# Altium footprint library Inductors.PcbLib: 26 footprints (part 1 of 2)
Each footprint in its own frame and in the unit in brackets; x right, y up, seen from the top. Pads: shape width x height; smd on the part's side, far side on the other; paste and mask are expansions set on the pad; w line width, h text height; cw(c..) or ccw(c..) is an arc to the next point about the centre after c.
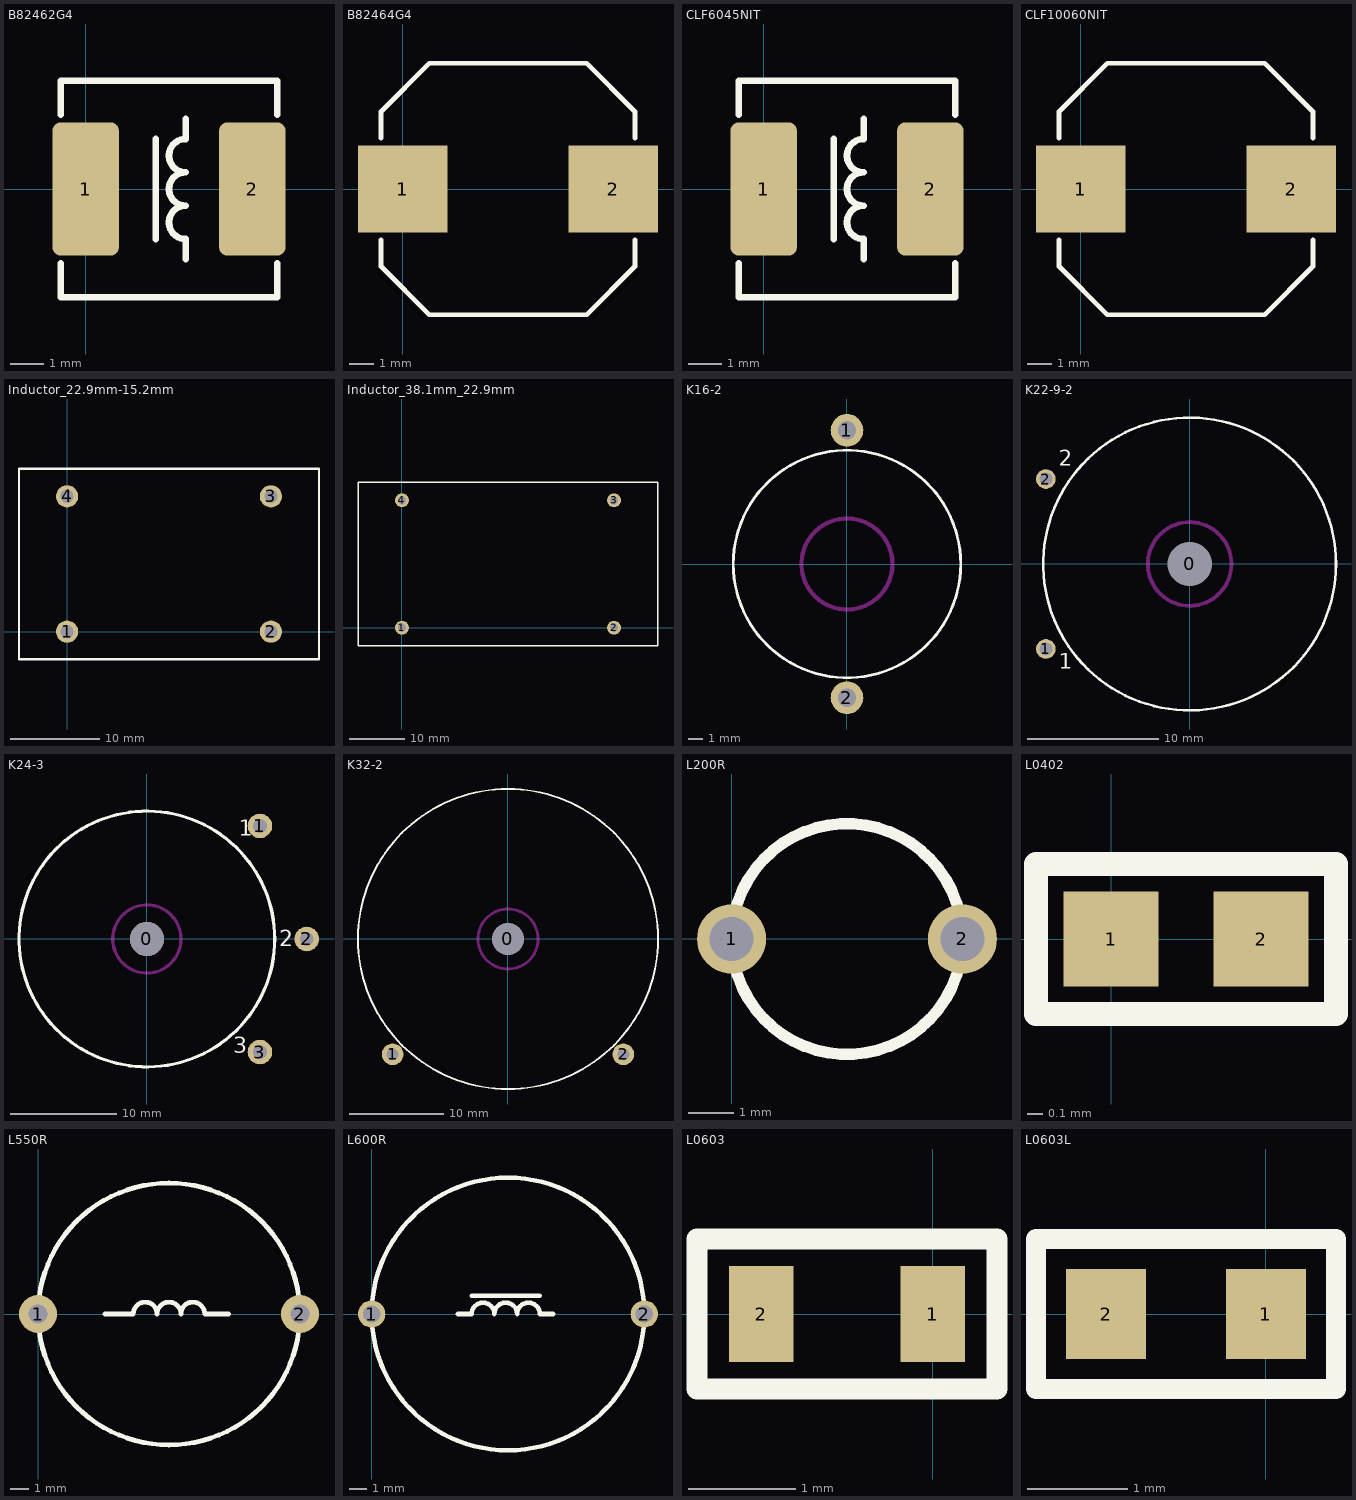
[diagram p0: the footprints below, top view; thin cyan lines are the x and y axes]

## B82462G4 [mm]
pads (2):
  rrect25% 2x4 smd: 1(0,0) 2(5,0)
Top Overlay:
  lines w0.2: -0.75,-2.225 -0.75,-3.25 5.75,-3.25 5.75,-2.225 ; -0.75,2.225 -0.75,3.25 5.75,3.25 5.75,2.225 ; 2.1,-1.5 2.1,1.5 ; 3,-2.1 3,-1.5 cw(c3,-1) 3,-0.5 cw(c3,0) 3,0.5 cw(c3,1) 3,1.5 3,2.1
Top Assembly:
  text ".Designator" at 1.333,-4.998 h1
3D body "User Library-b82462g4.STEP": height 3, standoff 0, extent -0.65,-3.15 5.65,3.15

## B82464G4 [mm] "SM Inductor; 2 Leads; Size 10x10 mm"
height 5
pads (2):
  rect 3.7x3.6 smd: 1(0,0) 2(8.7,0)
Top Overlay:
  lines w0.2: -0.9,-2.1 -0.9,-3.2 1.1,-5.2 7.6,-5.2 9.6,-3.2 9.6,-2.1 ; -0.9,2.1 -0.9,3.2 1.1,5.2 4.7,5.2 7.6,5.2 9.6,3.2 9.6,2.1
Top Assembly:
  text ".Designator" at -0.698,-0.333 h1
3D body "User Library-10x10 SMT Power Inductor.STEP": height 4.8, standoff 0, extent -0.85,-5.2 9.55,5.2

## CLF6045NIT [mm]
pads (2):
  rrect25% 2x4 smd: 1(0,0) 2(5,0)
Top Overlay:
  lines w0.2: -0.75,-2.225 -0.75,-3.25 5.75,-3.25 5.75,-2.225 ; -0.75,2.225 -0.75,3.25 5.75,3.25 5.75,2.225 ; 2.1,-1.5 2.1,1.5 ; 3,-2.1 3,-1.5 cw(c3,-1) 3,-0.5 cw(c3,0) 3,0.5 cw(c3,1) 3,1.5 3,2.1
Top Assembly:
  text ".Designator" at 1.333,-4.998 h1
3D body "CLF6045NIT-470M-D.STEP": height 4.8, standoff 0, extent -0.65,-3 5.65,3

## CLF10060NIT [mm] "SM Inductor; 2 Leads; Size 10x10 mm"
height 5
pads (2):
  rect 3.7x3.6 smd: 1(0,0) 2(8.7,0)
Top Overlay:
  lines w0.2: -0.9,-2.1 -0.9,-3.2 1.1,-5.2 7.6,-5.2 9.6,-3.2 9.6,-2.1 ; -0.9,2.1 -0.9,3.2 1.1,5.2 4.7,5.2 7.6,5.2 9.6,3.2 9.6,2.1
Top Assembly:
  text ".Designator" at -0.698,-0.333 h1
3D body "CLF10060NIT-470M-D.STEP": height 6.3, standoff 0, extent -0.7,-5 9.4,5

## Inductor_22.9mm-15.2mm [mm]
pads (4):
  round 2.5 hole 1.5: 1(0,0) 2(22.9,0) 3(22.9,15.2) 4(0,15.2)
Top Overlay:
  lines w0.254: -5.4,-3.1 -5.4,18.3 28.3,18.3 28.3,-3.1 -5.4,-3.1
Top Assembly:
  text ".Designator" at 16.448,7.267 h1
3D body "Coilcraft-CMT2-6_5-2L-DEFAULT.STEP": height 31.91, standoff -6.6, extent -5.225,-2.9 28.075,18.1

## Inductor_38.1mm_22.9mm [mm]
pads (4):
  round 2.5 hole 1.5: 1(0,0) 2(38.1,0) 3(38.1,22.9) 4(0,22.9)
Top Overlay:
  lines w0.254: -7.9,-3.2 -7.9,26.1 46,26.1 46,-3.2 -7.9,-3.2
Top Assembly:
  text ".Designator" at 24.048,11.117 h1
3D body "Coilcraft-CMT4-72-1L-DEFAULT.STEP": height 53.06, standoff -5.5, extent -7.6,-2.875 45.7,25.825

## K16-2 [mm] "Дроссель"
height 6
pads (2):
  round 2.3 hole 1.3: 1(0,9.4) 2(0,-9.4)
Top Overlay:
  circle w0.2: c0,0 r8
Keep-Out Layer:
  circle w0.3: c0,0 r3.2
Top Assembly:
  text "2" at -0.4,-7.7 h2
  text "1" at -0.4,6.4 h2
  text ".Designator" at -4.998,-0.333 h1
3D body: height 6, standoff 0, extent -8,-8 7.937,7.968

## K22-9-2 [mm] "Дроссель"
height 9
pads (3):
  round 3 hole 3.4 unplated: 0(0,0)
  round 1.5 hole 1: 1(-11,-6.5) 2(-11,6.5)
Top Overlay:
  circle w0.2: c0,0 r11.2
  text "2" at -10,7.5 h1.2
  text "1" at -10,-8 h1.2
Keep-Out Layer:
  circle w0.3: c0,0 r3.2
Top Assembly:
  text ".Designator" at -4.998,-0.333 h1
  text "2" at -0.4,-7.7 h2
  text "1" at -0.4,6.4 h2
3D body "K22_9.STEP": height 9.02, standoff 0.02, extent -11,-11 11,11

## K24-3 [mm] "Дроссель"
height 8
pads (4):
  round 3.2 hole 3.2: 0(0,0)
  round 2.3 hole 1.3: 1(10.607,10.607) 2(15,0) 3(10.607,-10.607)
Top Overlay:
  circle w0.3: c0,0 r12
  text "1" at 8.6,9.7 h1.5
  text "2" at 12.4,-0.7 h1.5
  text "3" at 8.1,-10.7 h1.5
Keep-Out Layer:
  circle w0.3: c0,0 r3.2
Top Assembly:
  text ".Designator" at -4.998,-0.333 h1
  text "2" at 10.6,-0.6 h2
  text "1" at 7.2,7.4 h2
  text "3" at 7.4,-8.4 h2
3D body: height 9.5, standoff 8, extent -10,-10.022 10,9.978
3D body: height 8, standoff 0, extent -12,-12.022 12,11.978

## K32-2 [mm] "Дроссель"
height 6
pads (3):
  round 3 hole 3.4 unplated: 0(0,0)
  round 2.3 hole 1.3: 1(-12.304,-12.304) 2(12.304,-12.304)
Top Overlay:
  circle w0.2: c0,0 r16
Keep-Out Layer:
  circle w0.3: c0,0 r3.2
Top Assembly:
  text ".Designator" at -4.998,-0.333 h1
  text "1" at -0.4,6.4 h2
  text "2" at -0.4,-7.7 h2
3D body "K32_15.STEP": height 15.17, standoff 0.17, extent -16,-16 16,16

## L200R [mil]
pads (2):
  round 60 hole 38: 1(0,0) 2(200,0)
Top Overlay:
  circle w10: c100,0 r100
Top Assembly:
  text ".Designator" at 296.79,-13.12 h39.37

## L0402 [mm]
pads (2):
  rect 0.6x0.6 smd: 1(0,0) 2(0.95,0)
Top Overlay:
  lines w0.15: -0.475,-0.475 -0.475,0.475 1.425,0.475 1.425,-0.475 -0.475,-0.475
Top Assembly:
  text ".Designator" at 5.473,-0.333 h1
3D body "INDC1005X60N.STEP": height 0.6, standoff 0, extent -0.025,-0.25 0.975,0.25

## L550R [mil]
pads (2):
  round 80 hole 40: 1(0,0) 2(550,0)
Top Overlay:
  circle w10: c275,0 r275
  lines w10: 140,0 200,0 cw(c225,0) 250,0 cw(c275,0) 300,0 cw(c325,0) 350,0 400,0
Top Assembly:
  text ".Designator" at 471.79,-13.12 h39.37

## L600R [mil]
pads (2):
  round 60 hole 38: 1(0,0) 2(600,0)
Top Overlay:
  circle w10: c300,0 r300
  lines w10: 190,0 220,0 cw(c245,0) 270,0 cw(c295,0) 320,0 cw(c345,0) 370,0 400,0 ; 220,40 370,40
Top Assembly:
  text ".Designator" at 496.79,-13.12 h39.37

## L0603 [mm]
pads (2):
  rect 0.6x0.9 smd: 1(0,0) 2(-1.6,0)
Top Overlay:
  lines w0.2: -2.2,-0.7 -2.2,0.7 0.6,0.7 0.6,-0.7 -2.2,-0.7
Top Assembly:
  text ".Designator" at -4.799,-0.267 h0.8
3D body "User Library-Chip InductorINDC1608X95N.STEP": height 0.95, standoff 0, extent -1.6,-0.4 0,0.4

## L0603L [mm]
pads (2):
  rect 0.8x0.9 smd: 1(0,0) 2(-1.6,0)
Top Overlay:
  lines w0.2: -2.3,-0.75 0.7,-0.75 0.7,0.75 -2.3,0.75 -2.3,-0.75
Top Assembly:
  text ".Designator" at -4.799,-0.267 h0.8
3D body "User Library-Chip InductorINDC1608X95N.STEP": height 0.95, standoff 0, extent -1.6,-0.4 0,0.4